# EAGLE library part 21000MPOE (library schematic)
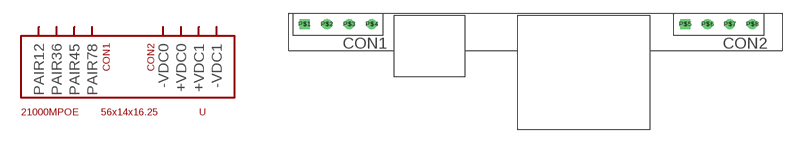
[diagram p22: symbol with the pads of 21000MPOE; footprint 21000MPOE]

Designator prefix -

## 21000MPOE  [21000MPOE]
P$1  PAIR12
P$2  PAIR36
P$3  PAIR45
P$4  PAIR78
P$5  -VDC0
P$6  +VDC0
P$7  +VDC1
P$8  -VDC1

## Footprint 21000MPOE (pad centres in mm)
drill 0.64 square: P$1 -23.6,1.01; P$5 19.58,1.01
drill 0.64: P$2 -21.06,1.01; P$3 -18.52,1.01; P$4 -15.98,1.01; P$6 22.12,1.01; P$7 24.66,1.01; P$8 27.2,1.01